# Altium schematic symbol library IMD_Conn.SchLib: 1 symbol
Pins are listed as number, name and electrical type; pins without a type are passive.

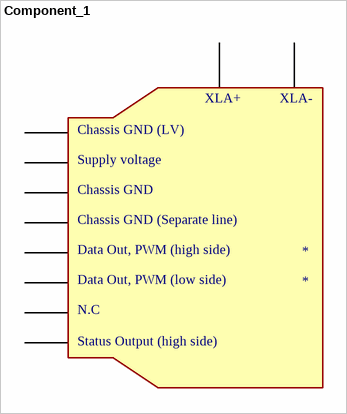
[diagram p0: symbol Component_1]

## Component_1
designator *
pins: 1, 2, 3, 4, 5, 6, 7, 8, 9, 10
text: XLA+; XLA-; Chassis GND (LV); Supply voltage; Chassis GND; Chassis GND (Separate line); Data Out, PWM (high side); Data Out, PWM (low side); N.C; Status Output (high side)